# EAGLE library part LM5113 (library NMR-relaxometry)
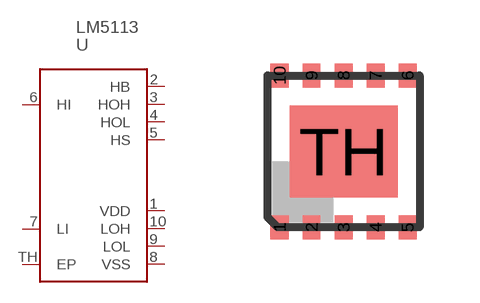
[diagram p5: symbol with the pads of LLP-10; footprint LLP-10]

Designator prefix -

## LM5113  [LLP-10]
1  VDD  pwr
2  HB  pas
3  HOH  out
4  HOL  out
5  HS  pas
6  HI  in
7  LI  in
8  VSS  pwr
9  LOL  out
10  LOH  out
TH  EP  pwr

## Footprint LLP-10 (pad centres in mm)
smd 0.45 x 0.61: 1 -1.6,-1.9; 2 -0.8,-1.9; 3 0,-1.9; 4 0.8,-1.9; 5 1.6,-1.9; 6 1.6,1.9; 7 0.8,1.9; 8 0,1.9; 9 -0.8,1.9; 10 -1.6,1.9
smd 2.7 x 2.3: TH 0,0